# Altium schematic symbol library Adapters.SchLib: 3 symbols
Pins are listed as number, name and electrical type; pins without a type are passive.

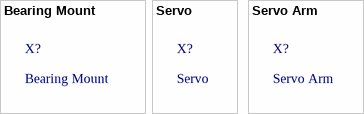
[diagram p0: symbols Bearing Mount to Servo Arm]

## Bearing Mount
designator X?
footprint Bearing Mount

## Servo
designator X?
footprint Servo

## Servo Arm
designator X?
footprint Servo Arm